# Altium schematic symbol library 35-pin-ampseal.SchLib: 1 symbol
Pins are listed as number, name and electrical type; pins without a type are passive.

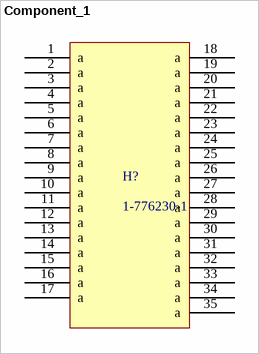
[diagram p0: symbol Component_1]

## Component_1
designator H?, comment 1-776230-1
HEADER ASSY, 35 POS VERTICAL
footprint H? (HEADER ASSY, 35 POS VERTICAL)
pins: 1 a, 2 a, 3 a, 4 a, 5 a, 6 a, 7 a, 8 a, 9 a, 10 a, 11 a, 12 a, 13 a, 14 a, 15 a, 16 a, 17 a, 18 a, 19 a, 20 a, 21 a, 22 a, 23 a, 24 a, 25 a, 26 a, 27 a, 28 a, 29 a, 30 a, 31 a, 32 a, 33 a, 34 a, 35 a